# Altium schematic symbol library sm712_02htg.SchLib: 1 symbol
Pins are listed as number, name and electrical type; pins without a type are passive.

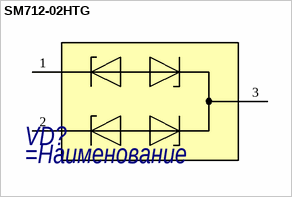
[diagram p0: symbol SM712-02HTG]

## SM712-02HTG
designator VD?
=Описание
pins: 1, 2, 3